# EAGLE library part IS25LP080D-JNLA3 (library SamacSys_Parts)
NOR Flash 8Mb QSPI, 8-pin SOP 150Mil, RoHS, AUTO GRADE Source: Datasheet <https://www.arrow.com/en/products/is25lp080d-jnla3/integrated-silicon-solution-inc>
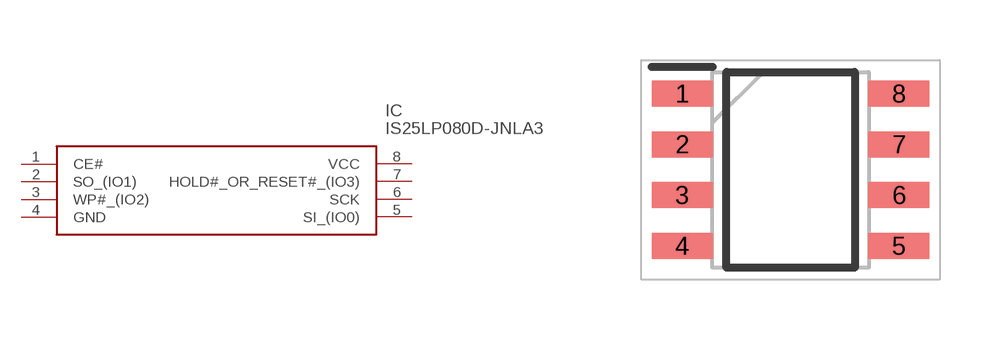
[diagram p178: symbol with the pads of SOIC127P600X175-8N; footprint SOIC127P600X175-8N]

Designator prefix IC

## IS25LP080D-JNLA3 (DESCRIPTION: NOR Flash 8Mb QSPI, 8-pin SOP 150Mil, RoHS, AUTO GRADE; HEIGHT: 1.75mm; MANUFACTURER_NAME: Integrated Silicon Solution Inc.; MANUFACTURER_PART_NUMBER: IS25LP080D-JNLA3; MOUSER_PART_NUMBER: 870-IS25LP080D-JNLA3; MOUSER_PRICE-STOCK: https://www.mouser.co.uk/ProductDetail/ISSI/IS25LP080D-JNLA3?qs=%252BEew9%252B0nqrCshyjV1bw0fQ%3D%3D)  [SOIC127P600X175-8N]
1  CE#
2  SO_(IO1)
3  WP#_(IO2)
4  GND
5  SI_(IO0)
6  SCK
7  HOLD#_OR_RESET#_(IO3)
8  VCC

## Footprint SOIC127P600X175-8N (pad centres in mm)
SO8N 8-lead plastic small outline, 150 mils body width
smd 1.525 x 0.65: 1 -2.712,1.905; 2 -2.712,0.635; 3 -2.712,-0.635; 4 -2.712,-1.905; 5 2.712,-1.905; 6 2.712,-0.635; 7 2.712,0.635; 8 2.712,1.905